# Altium integrated library Opto-Electronics.IntLib: 22 symbols
Pins are listed as number, name and electrical type; pins without a type are passive.

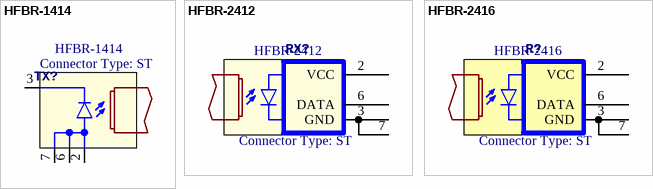
[diagram p0: symbols HFBR-1414 to HFBR-2416]

## HFBR-1414
designator TX?, comment Connector Type: ST  Part Number: HFBR-1414  (hidden comment: HFBR-1414TZ)
Transmitter low cost miniature fiber optic, ST Connection, housed, TX standard power, Threaded Port; Manufacturer: Avago; Wavelength: 820nm; V Forward: 1.84V; Current (Max): 100mA; DC Reverse Voltage: 3.8V; Data Rate: 160MBd; Note: 031-10495-NA        3/8-32 nickel hex nut; Supplier 1: Mouser; Supplier 2: Newark; Supplier 3: Digi-Key; Supplier Part Number 1: 630-HFBR-1414TZ; Supplier Part Number 2: 71K0261; Supplier Part Number 3: 516-2039-ND; PackageDescription: HFBR-X40X series Fiber TX/RX, Through Hole; PackageReference: HFBR-X40X; ComponentLink1Description: Datasheet; Output: -; Type: Transmitter
footprint HFBR-X40X (HFBR-X40X series Fiber TX/RX, Through Hole)
3D model HFBR-x41xTZ (PCB3D Model)
pins: 2 A, 3 C, 6 A1, 7 A2

## HFBR-2412
designator RX?, comment Connector Type: ST  Part Number: HFBR-2412  (hidden comment: HFBR-2412TZ)
Receiver low cost miniature fiber optic, ST Connection, housed, RX, Threaded Port, TTL; Manufacturer: Avago; Current (Max): 25mA; Data Rate: 5MBd; Wavelength: 820nm; Output: TTL; Supplier 1: Mouser; Supplier 2: Newark; Supplier 3: Digi-Key; Supplier Part Number 1: 630-HFBR-2412TZ; Supplier Part Number 2: 71K0276; Supplier Part Number 3: 516-2055-ND; PackageDescription: HFBR-X40X series Fiber TX/RX, Through Hole; PackageReference: HFBR-X40X; ComponentLink1Description: Datasheet; Type: Reciever; V Forward: -
footprint HFBR-X40X (HFBR-X40X series Fiber TX/RX, Through Hole)
3D model HFBR-x41xTZ (PCB3D Model)
pins: 2 VCC (power), 3 GND (power), 6 DATA, 7 GND (power)

## HFBR-2416
designator R?, comment Connector Type: ST  Part Number: HFBR-2416  (hidden comment: HFBR-2416TZ)
Receiver low cost miniature fiber optic, ST Connection, housed, RX 125MHz Analog output, Threaded Port; Manufacturer: Avago; Current (Max): 25mA; Data Rate: 5MBd; Wavelength: 820nm; Output: Analog; Supplier 1: Newark; Supplier 2: Mouser; Supplier 3: Digi-Key; Supplier Part Number 1: 71K0278; Supplier Part Number 2: 630-HFBR-2416TZ; Supplier Part Number 3: 516-2058-ND; PackageDescription: HFBR-X40X series Fiber TX/RX, Through Hole; PackageReference: HFBR-X40X; ComponentLink1Description: Datasheet; Type: Reciever; V Forward: -
footprint HFBR-X40X (HFBR-X40X series Fiber TX/RX, Through Hole)
3D model HFBR-x41xTZ (PCB3D Model)
pins: 2 VCC (power), 3 GND (power), 6 DATA, 7 GND (power)


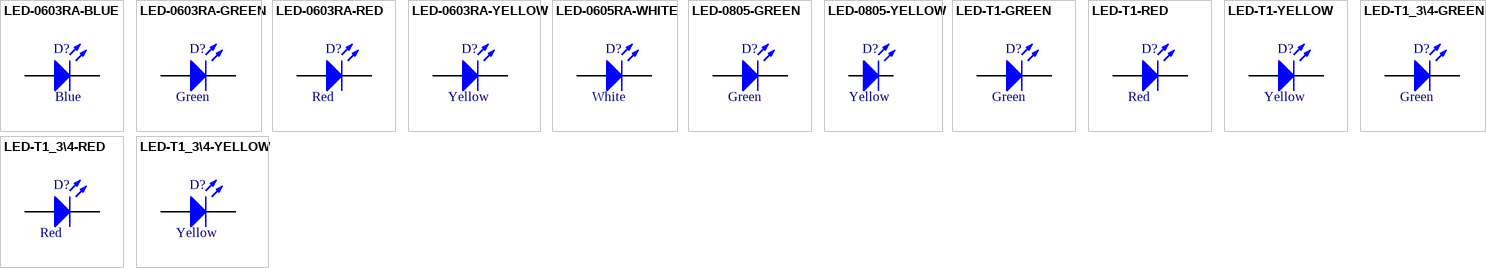
[diagram p1: symbols LED-0603RA-BLUE to LED-T1_3\4-YELLOW]

## LED-0603RA-BLUE
designator D?, comment Colour: Blue  (hidden comment: LTST-S270TBKT)
LED, Blue, Surface Mount, 0603, Right angle; Manufacturer: Lite-On; V Forward: 3.3V; Viewing Angle: 130; Brightness: 104mcd; PackageDescription: 0603 Right Angle; Part Number: LTST-S270TBKT; ComponentLink1Description: Datasheet; Supplier 1: Mouser; Supplier Part Number 1: 859-LTST-S270TBKT-5A; Supplier 2: Digi-Key; Supplier Part Number 2: 160-1650-1-ND; Package Reference: 0603-RA
footprint LED-0603-RT (Chip LED, Right Angle mounting Body 1.6x0.8mm, IPC High Density); pin to pad 1>A 2>C
simulation model LTST-SERIES (Diode)
3D model 0603-LED (PCB3D Model)
pins: 1 A, 2 C

## LED-0603RA-GREEN
designator D?, comment Colour: Green  (hidden comment: LTST-S270KGKT)
LED, Green, Surface Mount, 0603, Right angle; Manufacturer: Lite-On; V Forward: 2V; Brightness: 35mcd; Viewing Angle: 130; PackageDescription: 0603 Right Angle; Part Number: LTST-S270KGKT; Supplier 1: Mouser; Supplier 2: Newark; Supplier 3: Digi-Key; Supplier Part Number 1: 859-LTST-S270KGKT; Supplier Part Number 2: 19J8839; Supplier Part Number 3: 160-1478-1-ND; ComponentLink1Description: Datasheet; Package Reference: 0603-RA
footprint LED-0603-RT (Chip LED, Right Angle mounting Body 1.6x0.8mm, IPC High Density); pin to pad 1>A 2>C
simulation model LTST-SERIES (Diode)
3D model 0603-LED (PCB3D Model)
pins: 1 A, 2 C

## LED-0603RA-RED
designator D?, comment Colour: Red  (hidden comment: LTST-S270KRKT)
LED, Red, Surface Mount, 0603, Right angle; Manufacturer: Lite-On; V Forward: 2V; Brightness: 54mcd; Viewing Angle: 130; PackageDescription: 0603 Right Angle; Part Number: LTST-S270KRKT; Supplier 1: Mouser; Supplier 2: Newark; Supplier 3: Digi-Key; Supplier Part Number 1: 859-LTST-S270KRKT; Supplier Part Number 2: 09J9435; Supplier Part Number 3: 160-1479-1-ND; ComponentLink1Description: Datasheet; Package Reference: 0603-RA
footprint LED-0603-RT (Chip LED, Right Angle mounting Body 1.6x0.8mm, IPC High Density); pin to pad 1>A 2>C
simulation model LTST-SERIES (Diode)
3D model 0603-LED (PCB3D Model)
pins: 1 A, 2 C

## LED-0603RA-YELLOW
designator D?, comment Colour: Yellow  (hidden comment: LTST-S270KSKT)
LED, Yellow, Surface Mount, 0603, Right angle; Manufacturer: Lite-On; V Forward: 2V; Brightness: 80mcd; Viewing Angle: 130; PackageDescription: 0603 Right Angle; Part Number: LTST-S270KSKT; Supplier 1: Mouser; Supplier 2: Digi-Key; Supplier Part Number 1: 859-LTST-S270KSKT; Supplier Part Number 2: 160-1480-1-ND; Package Reference: 0603-RA; ComponentLink1Description: Datasheet
footprint LED-0603-RT (Chip LED, Right Angle mounting Body 1.6x0.8mm, IPC High Density); pin to pad 1>A 2>C
simulation model LTST-SERIES (Diode)
3D model 0603-LED (PCB3D Model)
pins: 1 A, 2 C

## LED-0605RA-WHITE
designator D?, comment Colour: White  (hidden comment: SMLA12WBC7W1)
LED, White, Surface Mount, 0603, Right angle; Manufacturer: Lite-On; V Forward: 2.9V; Brightness: 56mcd; Viewing Angle: 130; PackageDescription: 0603 Right Angle; Part Number: SMLA12WBC7W1; ComponentLink1Description: Datasheet; Supplier 1: Mouser; Supplier Part Number 1: 755-SMLA12WBC7W1; Supplier 2: Digi-Key; Supplier Part Number 2: 511-1632-1-ND; Package Reference: 0605-RA
simulation model LTST-SERIES (Diode)
footprint LED-0605-RT (Chip LED, Right Angle mounting Body 1.6x1.15mm, IPC High Density)
pins: A, C

## LED-0805-GREEN
designator D?, comment Colour: Green  (hidden comment: XZVG54W-1)
LED, Green, Surface Mount, 0805; Manufacturer: SunLED; V Forward: 2.1V; Brightness: 49mcd; Viewing Angle: 120; PackageDescription: 0805 LED package; ComponentLink1Description: Datasheet; Part Number: XZVG54W-1; Supplier 1: Digi-Key; Supplier Part Number 1: 1497-1216-1-ND; Package Reference: 0805
footprint LED-0805 (Chip LED Body 2.0x1.2mm, IPC Low Density); pin to pad 1>A 2>C
simulation model LED0 (Diode)
3D model 0805-LED (PCB3D Model)
pins: 1 A, 2 C

## LED-0805-YELLOW
designator D?, comment Colour: Yellow  (hidden comment: LTST-C171KSKT)
LED, Yellow, Surface Mount, 0805; Manufacturer: Lite-On LED; V Forward: 2V; Brightness: 50mcd; Viewing Angle: 130; PackageDescription: 0805 LED package; ComponentLink1Description: Datasheet; Part Number: LTST-C171KSKT; Package Reference: 0805; Supplier 1: Mouser; Supplier Part Number 1: 859-LTST-C171KSKT; Supplier 2: Digi-Key; Supplier Part Number 2: 160-1428-1-ND
footprint LED-0805 (Chip LED Body 2.0x1.2mm, IPC Low Density); pin to pad 1>A 2>C
simulation model LED0 (Diode)
3D model 0805-LED (PCB3D Model)
pins: 1 A, 2 C

## LED-T1-GREEN
designator D?, comment Colour: Green  (hidden comment: KSB-1311)
LED, Super Green, Through Hole, T1 (3mm); Manufacturer: Knite Lites; V Forward: 2.4V; Brightness: 1000mcd; Viewing Angle: 50; PackageDescription: 3mm LED, T1 size, Vertical Mounting; Part Number: KSB-1311; ComponentLink1Description: Datasheet; Package Reference: T1
footprint LED-T1-VERT (3mm LED, T1 size, Vertical Mounting); pin to pad 1>A 2>C
simulation model LED0 (Generic LED SPICE parameters)
3D model T1-LED-TH (PCB3D Model)
pins: 1 A, 2 C

## LED-T1-RED
designator D?, comment Colour: Red  (hidden comment: KSB-1264)
LED, Red, Through Hole, T1 (3mm); Manufacturer: Knite Lites; V Forward: 2.4V; Brightness: 50mcd; Viewing Angle: 50; PackageDescription: 3mm LED, T1 size, Vertical Mounting; Part Number: KSB-1264; Package Reference: T1; ComponentLink1Description: Datasheet
footprint LED-T1-VERT (3mm LED, T1 size, Vertical Mounting); pin to pad 1>A 2>C
simulation model LED0 (Generic LED SPICE parameters)
3D model T1-LED-TH (PCB3D Model)
pins: 1 A, 2 C

## LED-T1-YELLOW
designator D?, comment Colour: Yellow  (hidden comment: KSB-1351)
LED, Super Yellow, Through Hole, T1 (3mm); Manufacturer: Knite Lites; V Forward: 2.4V; Brightness: 30mcd; Viewing Angle: 50; PackageDescription: 3mm LED, T1 size, Vertical Mounting; Part Number: KSB-1351; Package Reference: T1; ComponentLink1Description: Datasheet
footprint LED-T1-VERT (3mm LED, T1 size, Vertical Mounting); pin to pad 1>A 2>C
simulation model LED0 (Generic LED SPICE parameters)
3D model T1-LED-TH (PCB3D Model)
pins: 1 A, 2 C

## LED-T1_3\4-GREEN
designator D?, comment Colour: Green  (hidden comment: HLMP-3950)
LED, Super Green, Through Hole, T1 3/4(5mm); Manufacturer: Avago; V Forward: 2.2V; Brightness: 265mcd; Viewing Angle: 30; PackageDescription: 5mm LED, T1 3/4 size, Vertical Mounting; Part Number: HLMP-3950; Supplier 1: Digi-Key; Supplier 2: Arrow; Supplier 3: Newark; Supplier 4: Mouser; Supplier Part Number 1: 516-1347-ND; Supplier Part Number 2: HLMP-3950; Supplier Part Number 3: 42K5950; Supplier Part Number 4: 630-HLMP-3950; Package Reference: T1 3/4; ComponentLink1Description: Datasheet
footprint LED-T1 3/4-VERT (5mm LED, T1 3/4 size Vertical Mounting); pin to pad 1>A 2>C
simulation model LED0 (Generic LED SPICE parameters)
3D model T1.75-LED-TH (PCB3D Model)
pins: 1 A, 2 C

## LED-T1_3\4-RED
designator D?, comment Colour: Red  (hidden comment: HLMP-3750)
LED, Super Red, Through Hole, T1 3/4(5mm); Manufacturer: Avago; V Forward: 1.9V; Brightness: 125mcd; Viewing Angle: 45; PackageDescription: 5mm LED, T1 size, Vertical Mounting; Part Number: HLMP-3750; Supplier 1: Arrow; Supplier 2: Digi-Key; Supplier 3: Mouser; Supplier 4: Newark; Supplier Part Number 1: HLMP-3750; Supplier Part Number 2: 516-1345-ND; Supplier Part Number 3: 630-HLMP-3750; Supplier Part Number 4: 42K5949; Package Reference: T1 3/4; ComponentLink1Description: Datasheet
footprint LED-T1 3/4-VERT (5mm LED, T1 3/4 size Vertical Mounting); pin to pad 1>A 2>C
simulation model LED0 (Generic LED SPICE parameters)
3D model T1.75-LED-TH (PCB3D Model)
pins: 1 A, 2 C

## LED-T1_3\4-YELLOW
designator D?, comment Colour: Yellow  (hidden comment: HLMP-3850)
LED, Super Yellow, Through Hole, T1 3/4(5mm); Manufacturer: Avago; V Forward: Unknown; Brightness: 30mcd; Viewing Angle: 50; PackageDescription: 5mm LED, T1 3/4 size, Vertical Mounting; Part Number: HLMP-3850; Supplier 1: Mouser; Supplier 2: Newark; Supplier 3: Arrow; Supplier 4: Digi-Key; Supplier Part Number 1: 630-HLMP-3850; Supplier Part Number 2: 40K0074; Supplier Part Number 3: HLMP-3850; Supplier Part Number 4: 516-1346-ND; ComponentLink1Description: Datasheet; Package Reference: T1 3/4
footprint LED-T1 3/4-VERT (5mm LED, T1 3/4 size Vertical Mounting); pin to pad 1>A 2>C
simulation model LED0 (Generic LED SPICE parameters)
3D model T1.75-LED-TH (PCB3D Model)
pins: 1 A, 2 C


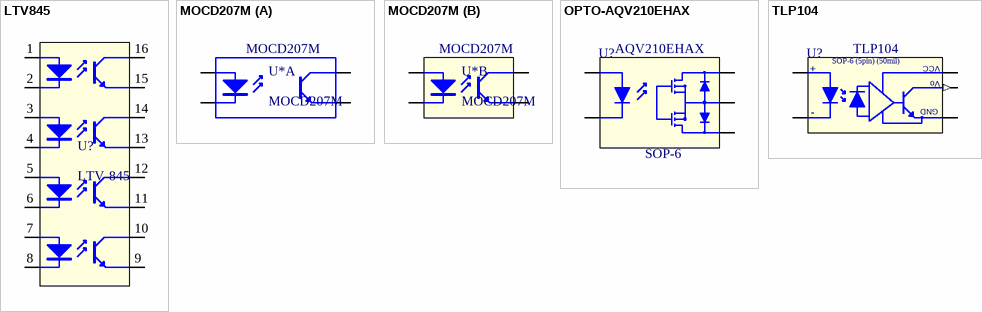
[diagram p2: symbols LTV845 to TLP104]

## LTV845
designator U?, comment LTV-845
Opto-isolator 4CH Transistor 8-SMD; Manufacturer: Liteon Optoelectronics; Part Number: LTV-845S; Isolation Voltage: 5000Vrms; Rise/Fall Time: 4us/3us; Number of Channels: 4; Forward Voltage: 1.2V; Output Type: Transistor; PackageDescription: 16-SMD, Gull wing; Package Reference: 16-SMD; Category: Isolators; Supplier 1: Mouser; Supplier Part Number 1: 859-LTV-845S; Supplier 2: Digi-Key; Supplier Part Number 2: 160-2042-5-ND; ComponentLink1Description: Datasheet
footprint 16-SMD (16-SMD Gull Wing)
pins: 1 A1 "Anode", 2 K1 "Cathode", 3 A2 "Anode", 4 K2 "Cathode", 5 A3 "Emitter", 6 K3 "Collector", 7 A4 "Emitter", 8 K4 "Collector", 9 E4 "Emitter", 10 C4 "Collector", 11 E3 "Cathode", 12 C3 "Anode", 13 E2 "Emitter", 14 C2 "Collector", 15 E1 "Anode", 16 C1 "Cathode"

## MOCD207M
designator U*
Opto-Isolator, 2.5KV Isolation, 2 Channel, Transistor output; Manufacturer: Fairchild Semiconductor; Rise/Fall Time: 1.6us/2.2us; Forward Voltage: 1.25V; Number of Channels: 1; Output Type: Transistor; Isolation Voltage: 2.5kV; PackageDescription: SOIC, 8-Leads, Body 4.9x3.9mm, Pitch 1.27mm, IPC Low Density; Supplier 1: Mouser; Supplier 2: Digi-Key; Supplier 3: Newark; Supplier Part Number 1: 512-MOCD207M; Supplier Part Number 2: MOCD207M-ND; Supplier Part Number 3: 67K0803; Package Reference: SOIC-8; ComponentLink1Description: Datasheet; ComponentLink1URL: \\Canopus\EDA\Datasheets\Op-Amps and Comparitors\; Part Number: MOCD207M; Category: Isolators
3D model SOIC-8 (PCB3D Model)
footprint SOIC-8 (SOIC, 8-Leads, Body 4.9x3.9mm, Pitch 1.27mm, IPC Low Density)
part A pins: 1 A1 "Anode", 2 K1 "Cathode", 7 E1 "Emitter", 8 C1 "Collector"
part B pins: 3 A2 "Anode", 4 K2 "Cathode", 5 E2 "Emitter", 6 C2 "Collector"

## OPTO-AQV210EHAX
designator U?, comment Package Reference: SOP-6  (hidden comment: AQV210EHAX)
Opto-Relay, SPST, 130mA 350V, Surface Mount; Manufacturer: Panasonic; Output Type: AC/DC; Forward Voltage: 1.14V; Isolation Voltage: 5000V; Number of Channels: 1; Rise/Fall Time: 5ms/0.05ms; PackageDescription: SOP, 6-Leads, Body 8.80x6.40mm, Pitch 2.54mm, IPC Low Density; ComponentLink1Description: Datasheet; ComponentLink1URL: \\Canopus\EDA\Datasheets\Op-Amps and Comparitors\; Category: Relay; Part Number: AQV210EHAX
footprint SOP-6-100mil (SOP, 6-Leads, Body 8.80x6.40mm, Pitch 2.54mm, IPC Low Density)
3D model SOP-6 (PCB3D Model)
pins: 1 "Anode", 2 "Cathode", 4 NO "Normally Open pin", 5 COM "Common", 6 NC "Normally Closed pin"

## TLP104
designator U?  Package Reference: SOP-6 (5pin) (50mil)  (hidden comment: TLP104)
Opto-Isolator, 3750Vrms Isolation, Open Collector, Surface Mount; Manufacturer: Toshiba Semiconductor and Storage; Rise/Fall Time: 550nS, 400nS; Forward Voltage: 1.61V; Number of Channels: 1; Output Type: Open Collector; Isolation Voltage: 3750Vrms; Supplier 1: Mouser; Supplier Part Number 1: 757-TLP104E; Supplier 2: Digi-Key; Supplier Part Number 2: TLP104E-ND; PackageDescription: SOP, 5-Leads, Body 4.60x3.75mm, Pitch 1.27mm, IPC Low Density; ComponentLink1Description: Datasheet; ComponentLink1URL: \\Canopus\EDA\Datasheets\Op-Amps and Comparitors\TLP104.pdf; Category: Isolators; Part Number: TLP104
footprint SOP-6-5pin-50mil (SOP, 5-Leads, Body 4.60x3.75mm, Pitch 1.27mm, IPC Low Density)
pins: 1 "+", 3 "-", 4 GND (power) "GROUND", 5 Vo (out) "Output", 6 VCC
text: +; -


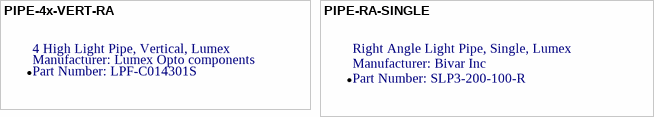
[diagram p3: symbols PIPE-4x-VERT-RA to PIPE-RA-SINGLE]

## PIPE-4x-VERT-RA
designator ZO?, comment Manufacturer: Lumex Opto components  (hidden comment: LPF-C014301S)
4 High Light Pipe, Vertical, Lumex; Configuration: 4 High, 1 Wide; PackageDescription: Light Pipes, Lumex, 4 high 1 wide, Right Angle; Mounting Style: Board Mount, Press Fit, Right Angle; Type: Rigid; ComponentLink1Description: Datasheet; Colour: Clear; Supplier 1: Mouser; Supplier Part Number 1: 696-LPF-C014301S; Supplier 2: Newark; Supplier Part Number 2: 77M0696; Supplier 3: Digi-Key; Supplier Part Number 3: 67-1852-ND; Package Reference: LPF-C014301S Package; Part Number: LPF-C014301S
footprint LPF-C014301S (Light pipe, Right Angle, 4 high, 3mm Round Lens)
text: .

## PIPE-RA-SINGLE
designator ZO?, comment Manufacturer: Bivar Inc  (hidden comment: SLP3-200-100-R)
Right Angle Light Pipe, Single, Lumex; PackageDescription: Light Pipe, Right Angle, Single; Mounting Style: Board Mount, Press Fit, Right Angle; Configuration: Single; Type: Rigid; ComponentLink1Description: Datasheet; Colour: Clear; Package Reference: SLP3-200-100-R; Supplier 1: Mouser; Supplier Part Number 1: 749-SLP3-200-100-R; Supplier 2: Allied; Supplier Part Number 2: 70536304; Supplier 3: Digi-Key; Supplier Part Number 3: 492-1312-ND; Part Number: SLP3-200-100-R
footprint SLP3-200-100-R (Board Mount Light Pipe, Bivar, 3mm lens, right angle, SLP3 series)
text: .